# Altium schematic symbol library DCDC Down Requlators.SchLib: 7 symbols
Pins are listed as number, name and electrical type; pins without a type are passive.

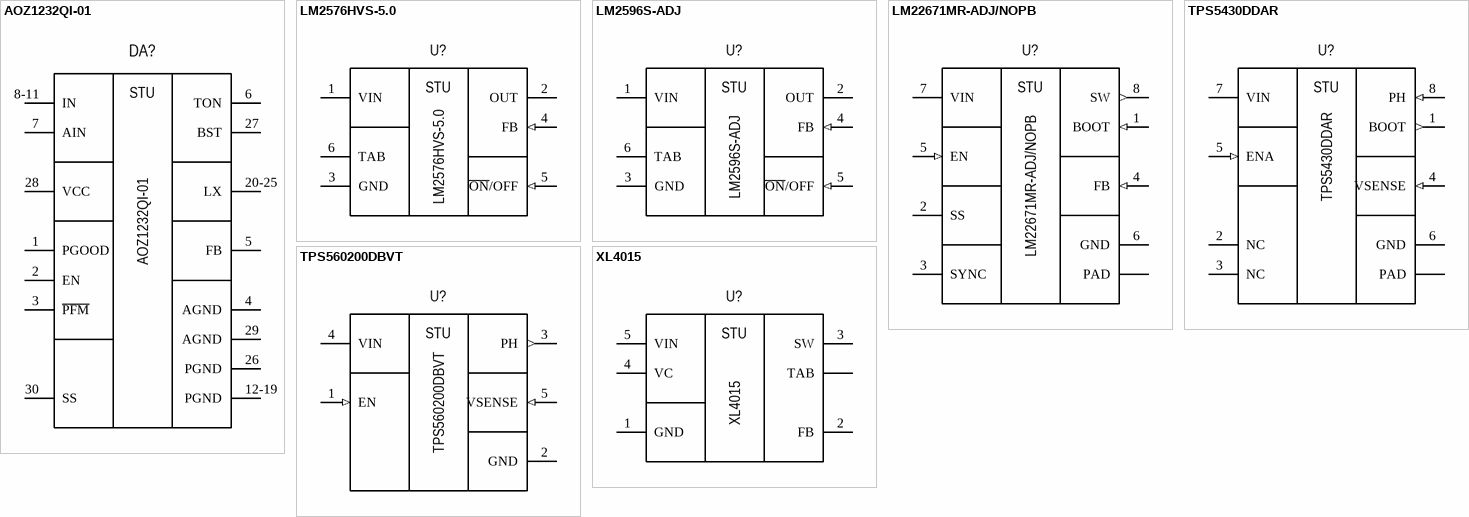
[diagram p0: symbols AOZ1232QI-01 to XL4015]

## AOZ1232QI-01
designator DA?
DCDC Down Reg 6A ADJ 0.8-23.8V (2.7-28V); Manufacturer: Alpha & Omega Semiconductor; Group: Power; Dimention: 5.00mm x 5.00mm; Voltage input: 2.7V - 28.0V; Voltage output: 0.8V - 23.8V; Frequency switching: 100kHz - 1MHz; Output Type: Adjustable; Topology: Buck; Package: QFN-30 (5x5); Part name: AOZ1232QI-01; Height: 1.00mm; Mounting type: Surface mount; Operating temperature: -40°C +85°C; Component: DCDC Down; Current: 6A
footprint AOZ1232QI-01 (QFN-30 5x5x0.9mm)
pins: 1 PGOOD "Power Input pin", 2 EN "Power Input pin", 3 ~{PFM} "Power Input pin", 4 AGND "Power Input pin", 5 FB "Power Input pin", 6 TON "Power Input pin", 7 AIN "Power Input pin", 8-11 IN "Power Input pin", 12-19 PGND "Power Input pin", 20-25 LX "Power Input pin", 26 PGND "Power Input pin", 27 BST "Power Input pin", 28 VCC "Power Input pin", 29 AGND "Power Input pin", 30 SS "Power Input pin"
text: STU

## LM2576HVS-5.0
designator U?
DCDC Down Reg 3A FIX 5V (4-60V); Manufacturer: Texas Instruments; Group: Power; Dimention: 10.40mm x 14.35mm; Voltage input: 4.0V - 60.0V; Voltage output: 5.0V; Frequency switching: 52kHz; Output Type: Fixed; Topology: Buck; Package: TO-263-6; Part name: LM2576HVS-5.0; Height: 4.70mm; Mounting type: Surface mount; Operating temperature: -40°C +125°C; Component: DCDC Down; Current: 3A
footprint TO-263-5
pins: 1 VIN (power), 2 OUT (power), 3 GND (power), 4 FB (in), 5 ~{ON}/OFF (in), 6 TAB (power)
text: STU

## LM2596S-ADJ
designator U?
DCDC Down Reg 3A ADJ 1.2-37V (4.5-40V); Manufacturer: Texas Instruments; Group: Power; Dimention: 10.40mm x 14.35mm; Voltage input: 4.5V - 40.0V; Voltage output: 1.2V - 37.0V; Frequency switching: 100kHz - 1MHz; Output Type: Adjustable; Topology: Buck; Package: TO-263-6; Part name: LM2596S-ADJ; Height: 4.70mm; Mounting type: Surface mount; Operating temperature: -40°C +125°C; Component: DCDC Down; Current: 3A
footprint TO-263-5
pins: 1 VIN (power), 2 OUT (power), 3 GND (power), 4 FB (in), 5 ~{ON}/OFF (in), 6 TAB (power)
text: STU

## LM22671MR-ADJ/NOPB
designator U?
DCDC Down Reg 3A ADJ 4.5-42V (1.3-40V); Manufacturer: Texas Instruments; Group: Power; Dimention: 6.20mm x 5.00mm; Current: 0.5A; Voltage input: 4.5V - 42.0V; Voltage output: 1.3V- 40.0V; Frequency switching: 500kHz (0.2-1MHz); Output Type: Adjustable; Topology: Buck; Package: SOIC-8; Part name: LM22671MR-ADJ/NOPB; Height: 1.70mm; Mounting type: Surface mount; Operating temperature: -40°C +125°C; Component: DCDC Down
footprint SOIC-8PN
pins: 1 BOOT (in) "Bootstrap input", 2 SS "Soft start", 3 SYNC "Oscillator frequency adjust pin or frequency synchronization", 4 FB (in) "Feedback pin", 5 EN (in) "Precision enable pin", 6 GND (power) "System ground", 7 VIN (power) "Source input voltage", 8 SW (out) "Switch pin", PAD (power) "Exposed Pad. Connect to ground."
text: STU

## TPS5430DDAR
designator U?
DCDC Down Reg 3A ADJ 1.2-32V (5-36V); Manufacturer: Texas Instruments; Group: Power; Dimention: 6.20mm x 5.00mm; Voltage input: 5.5V - 36.0V; Voltage output: 1.2V- 32.0V; Frequency switching: 500kHz; Output Type: Adjustable; Topology: Buck; Package: SOIC-8; Part name: TPS5430DDAR; Height: 1.70mm; Mounting type: Surface mount; Operating temperature: -40°C +125°C; Component: DCDC Down; Current: 3A
footprint SOIC-8PN
pins: 1 BOOT (out) "Boost capacitor for the high-side FET gate driver. Connect 0.01 μF low ESR capacitor from BOOT pin to PH", 2 NC "Not connected internally", 3 NC "Not connected internally", 4 VSENSE (in) "Feedback voltage for the regulator. Connect to output voltage divider.", 5 ENA (in) "On/off control. Below 0.5 V, the device stops switching. Float the pin to enable.", 6 GND (power) "Ground. Connect to PowerPAD.", 7 VIN (power) "Input supply voltage. Bypass VIN pin to GND pin close to device package with a high quality, low ESR ceramic capacitor.", 8 PH (in) "Source of the high side power MOSFET. Connected to external inductor and diode.", PAD (power) "GND pin must be connected to the exposed pad for proper operation."
text: STU

## TPS560200DBVT
designator U?
DCDC Down Reg 0.5A ADJ 0.8-6.5V (4.5-17V); Manufacturer: Texas Instruments; Group: Power; Dimention: 3.00mm x 3.05mm; Current: 3A; Voltage input: 5.5V - 36.0V; Voltage output: 0.8V - 6.5V; Frequency switching: 600kHz; Output Type: Adjustable; Topology: Buck; Package: SOT-23-5; Part name: TPS560200DBVT; Height: 1.45mm; Mounting type: Surface mount; Operating temperature: -40°C +125°C; Component: DCDC Down
footprint SOT-23-5
pins: 1 EN (in), 2 GND (power), 3 PH (out), 4 VIN (power), 5 VSENSE (in)
text: STU

## XL4015
designator U?
DCDC Down Reg 5A ADJ 1.2-32V (8-36V); Manufacturer: XLSEMI; Group: Power; Dimention: 10.54mm x 15.37mm; Voltage input: 8.0V - 36.0V; Voltage output: 1.2V - 32.0V; Frequency switching: 180kHz; Output Type: Adjustable; Topology: Buck; Package: TO-263-5; Part name: XL4015; Height: 4.83mm; Mounting type: Surface mount; Operating temperature: -40°C +125°C; Component: DCDC Down; Current: 5A
footprint TO-263-5
pins: 1 GND (power), 2 FB, 3 SW (power), 4 VC, 5 VIN (power), 6 TAB (power)
text: STU